# Altium schematic symbol library Schlib1.SchLib: 4 symbols
Pins are listed as number, name and electrical type; pins without a type are passive.

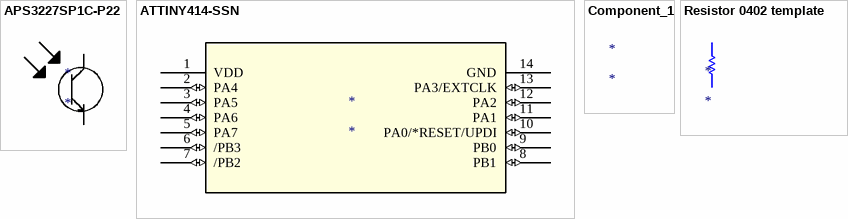
[diagram p0: symbols APS3227SP1C-P22 to Resistor 0402 template]

## APS3227SP1C-P22
designator *
footprint APS3227SP1C-P22 (Ambient Light Photo Sensor)
pins: 1 C, 2 E

## ATTINY414-SSN
designator *
footprint ATTINY414-SSN
pins: 1 VDD (power), 2 PA4 (io), 3 PA5 (io), 4 PA6 (io), 5 PA7 (io), 6 /PB3 (io), 7 /PB2 (io), 8 PB1 (io), 9 PB0 (io), 10 PA0/*RESET/UPDI (io), 11 PA1 (io), 12 PA2 (io), 13 PA3/EXTCLK (io), 14 GND

## Component_1
designator *

## Resistor 0402 template
designator *
footprint 0402 Res
pins: 1, 2